# Altium schematic symbol library Transformers.SchLib: 12 symbols
Pins are listed as number, name and electrical type; pins without a type are passive.

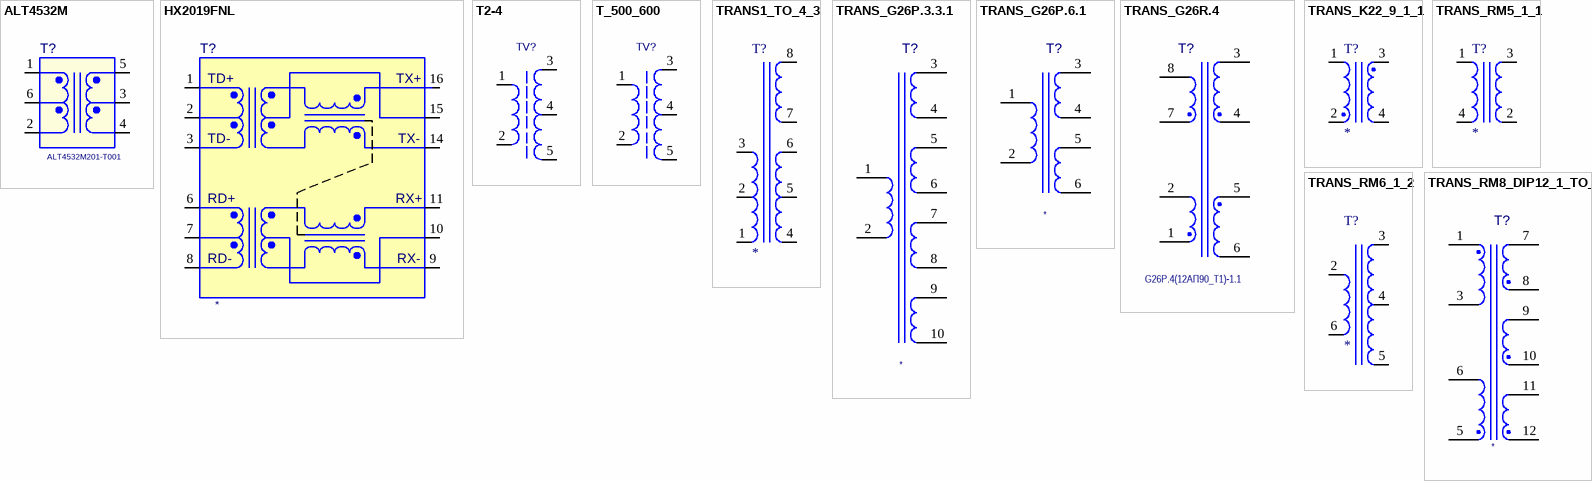
[diagram p0: symbols ALT4532M to TRANS_RM8_DIP12_1_TO_4]

## ALT4532M
designator T?, comment ALT4532M201-T001
footprint ALT4532M
pins: 1 TD+, 2, 3, 4, 5, 6

## HX2019FNL
designator T?
footprint HX2019FNL
pins: 1 TD+, 2, 3, 6, 7, 8, 9 5, 10 5, 11 5, 14, 15 EARTH, 16 EARTH
text: TX+; TD-; TX-; RD+; RX+; RD-; RX-

## T2-4
designator TV?  (value not drawn)
T2-4; Value: *
footprint T2-4
pins: 1, 2 0, 3 0, 4 1, 5 2, 6 hidden

## T_500_600
designator TV?  (value not drawn)
T_500_600; Value: *
footprint T_500_600
pins: 1, 2, 3, 4, 5, 6 hidden

## TRANS1_TO_4_3
designator T?
Part Field 1: *; Part Field 2: *
footprint K24-8-8 (Дроссель)
pins: 1, 2, 3, 4, 5, 6, 7, 8

## TRANS_G26P.3.3.1
designator T?
Part Field 1: *; Part Field 2: *
footprint K22-7-2-8
pins: 1, 2, 3, 4, 5, 6, 7, 8, 9, 10

## TRANS_G26P.6.1
designator T?
Part Field 1: *; Part Field 2: *
footprint K22-7-2-4
pins: 1, 2, 3, 4, 5, 6

## TRANS_G26R.4
designator T?, comment G26P.4(12АП90_Т1)-1.1
Part Field 1: *; Part Field 2: *
footprint EFD20-1-8
footprint KB6-8-DIP
pins: 1, 2, 3, 4, 5, 6, 7, 8

## TRANS_K22_9_1_1
designator T?
Part Field 1: *; Part Field 2: *
footprint K22-9-2-2 (Дроссель)
pins: 1, 2, 3, 4

## TRANS_RM5_1_1
designator T?
Part Field 1: *; Part Field 2: *
footprint RM5-4
pins: 1, 2, 3, 4

## TRANS_RM6_1_2
designator T?
Part Field 1: *; Part Field 2: *
footprint RM6-6_E-045-1 (RM Cores B65807)
pins: 2, 3, 4, 5, 6

## TRANS_RM8_DIP12_1_TO_4
designator T?
Part Field 1: *; Part Field 2: *
footprint KB8-12-DIP FRM0224-K
pins: 1, 3, 5, 6, 7, 8, 9, 10, 11, 12